# EAGLE library part 6-1393243-3 (library Relays)
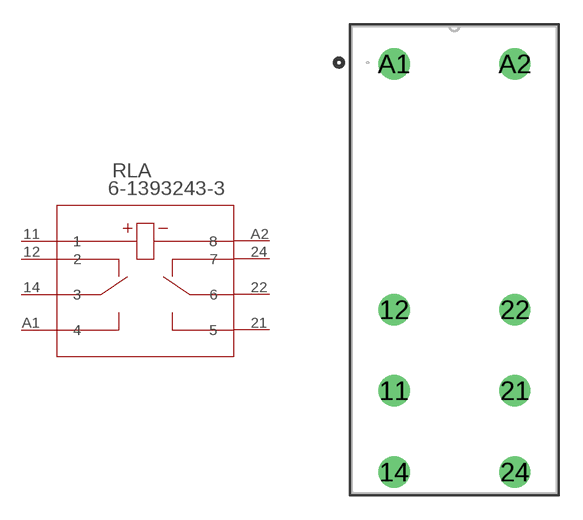
[diagram p74: symbol with the pads of RELAY8_6-1393243-3; footprint RELAY8_6-1393243-3]

Designator prefix RLA

## 6-1393243-3 (BUILT_BY: EMA_UL_Team; CATEGORY: Power Relays; CONTACT_ARRANGEMENT: 2 Form C (CO); COPYRIGHT: Copyright (C) 2016 Accelerated Designs. All rights reserved; DESCRIPTION: RT424012; MANUFACTURER_PART_NUMBER: RT424012; MAXIMUM_SWITCHING_CURRENT: -; MAXIMUM_SWITCHING_VOLTAGE: -; PART_STATUS: active; PRODUCT_TYPE: -; RELAY_TYPE: -; SERIES: SCHRACK Power PCB Relay RT2; TE_PART_NUMBER: RT424012 (6-1393243-3); VENDOR: TE Connectivity)  [RELAY8_6-1393243-3]
11  1  pas
12  2  pas
14  3  pas
21  5  pas
22  6  pas
24  7  pas
A1  4  pas
A2  8  pas

## Footprint RELAY8_6-1393243-3 (pad centres in mm)
drill 1.295 pad 1.803: 11 -7.493,4.013; 12 -7.493,9.042; 14 -7.493,-1.041; 21 0,4.013; 22 0,9.042; 24 0,-1.041; A1 -7.493,24.308; A2 0,24.308